# Altium schematic symbol library clock.SchLib: 2 symbols
Pins are listed as number, name and electrical type; pins without a type are passive.

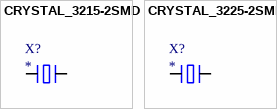
[diagram p0: symbols CRYSTAL_3215-2SMD to CRYSTAL_3225-2SMD]

## CRYSTAL_3215-2SMD
designator X?
Manufacturer 1: *; Manufacturer Part Number 1: *; Supplier Part Number 1: *; Supplier 1: *
footprint CRYSTAL_3215-2SMD
pins: 1, 2

## CRYSTAL_3225-2SMD
designator X?
Manufacturer 1: *; Manufacturer Part Number 1: *; Supplier Part Number 1: *; Supplier 1: *
footprint CRYSTAL_3225-2SMD
pins: 1, 2